# Altium schematic symbol library DISPLAY.SchLib: 6 symbols
Pins are listed as number, name and electrical type; pins without a type are passive.

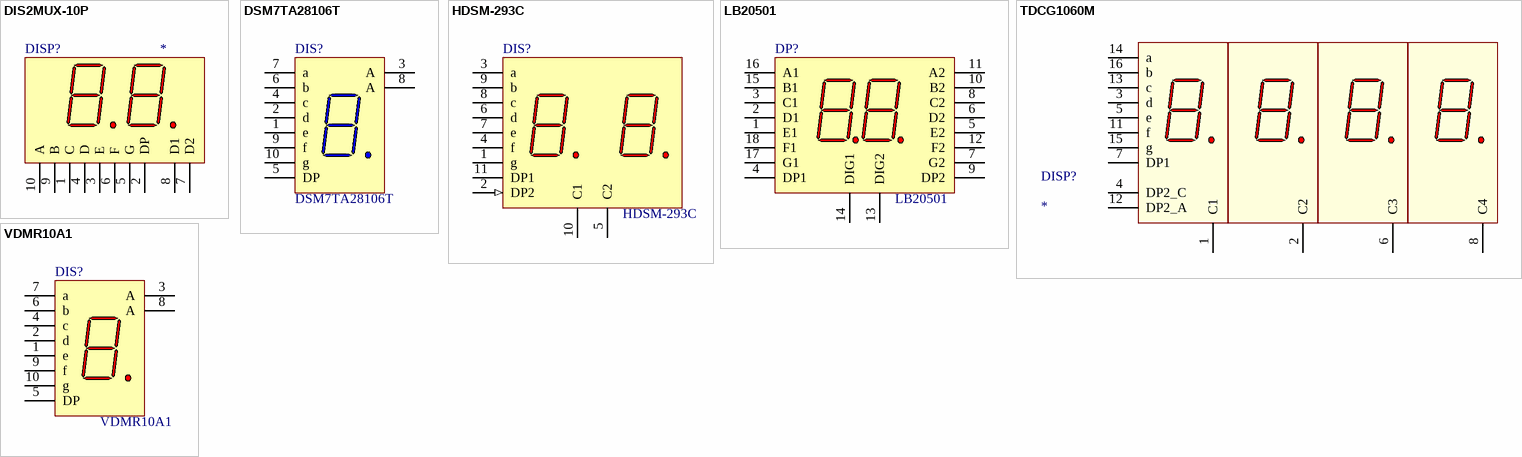
[diagram p0: symbols DIS2MUX-10P to VDMR10A1]

## DIS2MUX-10P
designator DISP?
Value: *
pins: 1 C, 2 DP, 3 E, 4 D, 5 G, 6 F, 7 D2, 8 D1, 9 B, 10 A

## DSM7TA28106T
designator DIS?
DIS THIN 7SEG 1DIG 0.28" BLUE TR; Manufacturer: Visual Communications; Supplier 1: Digi-Key; Manufacturer Part Number: DSM7TA28106T; Stock 1: 0; Value: DSM7TA28106T; Supplier Part Number 1: DSM7TA28106TCT-ND
pins: 1 e "Cathode", 2 d "Cathode", 3 A "Anode", 4 c "Cathode", 5 DP "Cathode", 6 b "Cathode", 7 a "Cathode", 8 A "Anode", 9 f "Cathode", 10 g "Cathode"

## HDSM-293C
designator DIS?
footprint HDSM-293C
pins: 1 g "Cathode", 2 DP2 (in) "Cathode", 3 a "Cathode", 4 f "Cathode", 5 C2 "Anode", 6 d "Cathode", 7 e "Cathode", 8 c "Cathode", 9 b "Cathode", 10 C1 "Anode", 11 DP1 "Cathode"

## LB20501
designator DP?
DUAL 7-SEG DISPLAY CC; Value: LB20501
footprint 2-STD-DISPLAY1
pins: 1 E1, 2 D1, 3 C1, 4 DP1, 5 E2, 6 D2, 7 G2, 8 C2, 9 DP2, 10 B2, 11 A2, 12 F2, 13 DIG2, 14 DIG1, 15 B1, 16 A1, 17 G1, 18 F1

## TDCG1060M
designator DISP?
footprint TDCG1060M
pins: 1 C1 "Anode", 2 C2 "Anode", 3 d "Cathode", 4 DP2_C "Cathode", 5 e "Cathode", 6 C3 "Anode", 7 DP1 "Cathode", 8 C4 "Anode", 11 f "Cathode", 12 DP2_A "Cathode", 13 c "Cathode", 14 a "Cathode", 15 g "Cathode", 16 b "Cathode"

## VDMR10A1
designator DIS?
LED Displays & Accessories 7Seg Super Red 631nm Common Anode; Manufacturer: Vishay Semiconductors; Number of Characters: 1; Max Power Dissipation: 70mW; Viewing Area (height): 10mm; Luminous Intensity: 1.6mcd; Forward Voltage: 2V; Forward Current: 20mA; Supplier 1: Digi-Key; Manufacturer Part Number: VDMR10A1; Stock 1: 3146; Pricing 1: 1=2.2, 10=1.951, 25=1.4472, 100=1.2584, 250=1.1326 (USD); Case/Package: SMD/SMT; Number of Pins: 10; Colour: Red; Min Operating Temperature: -35°C; Max Operating Temperature: 105°C; Package Quantity: 1; Packaging: Tape and Reel; Illumination Colour: Red; Wavelength: 631nm; Element Configuration: Common Anode; Power Consumption: 70mW; Test Current: 20mA; Dominant Wavelength: 631nm; Height: 0.512inch; Width: 0.386inch; Radiation Hardening: No; REACH SVHC: Unknown; Lead Free: Lead Free; ComponentLink1URL: https://datasheet.ciiva.com/22726/1913357-22726267.pdf; ComponentLink1Description: https://datasheet.ciiva.com/22726/1913357-22726267.pdf; ComponentLink2URL: https://datasheet.ciiva.com/24074/vdmx10x0-272413-24074651.pdf; ComponentLink2Description: https://datasheet.ciiva.com/24074/vdmx10x0-272413-24074651.pdf; ComponentLink3URL: https://datasheet.ciiva.com/23867/1809852-23867374.pdf; ComponentLink3Description: https://datasheet.ciiva.com/23867/1809852-23867374.pdf; ComponentLink4URL: https://datasheet.ciiva.com/24208/vdmx10a1-24208879.pdf; ComponentLink4Description: https://datasheet.ciiva.com/24208/vdmx10a1-24208879.pdf; Supplier Part Number 1: VDMR10A1DKR-ND; Value: VDMR10A1
footprint VDMR10A1
footprint DSM7TA28106T
pins: 1 e "Cathode", 2 d "Cathode", 3 A "Anode", 4 c "Cathode", 5 DP "Cathode", 6 b "Cathode", 7 a "Cathode", 8 A "Anode", 9 f "Cathode", 10 g "Cathode"